# EAGLE library part LCD-LY120-096096 (library Module)
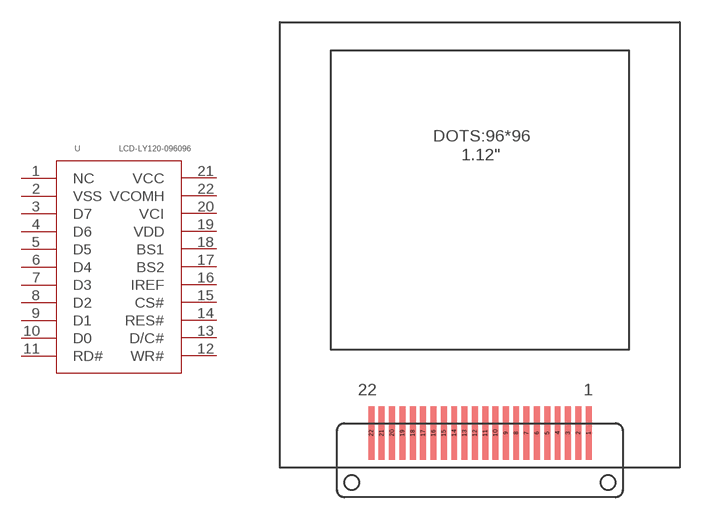
[diagram p8: symbol with the pads of 22P-0.7-30X27; footprint 22P-0.7-30X27]

Designator prefix U

## LCD-LY120-096096  [22P-0.7-30X27]
1  NC
2  VSS
3  D7
4  D6
5  D5
6  D4
7  D3
8  D2
9  D1
10  D0
11  RD#
12  WR#
13  D/C#
14  RES#
15  CS#
16  IREF
17  BS2
18  BS1
19  VDD
20  VCI
21  VCC
22  VCOMH

## Footprint 22P-0.7-30X27 (pad centres in mm)
smd 0.4 x 3.6: 1 7.35,-12.7; 2 6.65,-12.7; 3 5.95,-12.7; 4 5.25,-12.7; 5 4.55,-12.7; 6 3.85,-12.7; 7 3.15,-12.7; 8 2.45,-12.7; 9 1.75,-12.7; 10 1.05,-12.7; 11 0.365,-12.7; 12 -0.335,-12.7; 13 -1.035,-12.7; 14 -1.735,-12.7; 15 -2.435,-12.7; 16 -3.135,-12.7; 17 -3.835,-12.7; 18 -4.535,-12.7; 19 -5.235,-12.7; 20 -5.935,-12.7; 21 -6.635,-12.7; 22 -7.335,-12.7